# Altium schematic symbol library bch-lib.SchLib: 132 symbols (part 1 of 2)
Pins are listed as number, name and electrical type; pins without a type are passive.

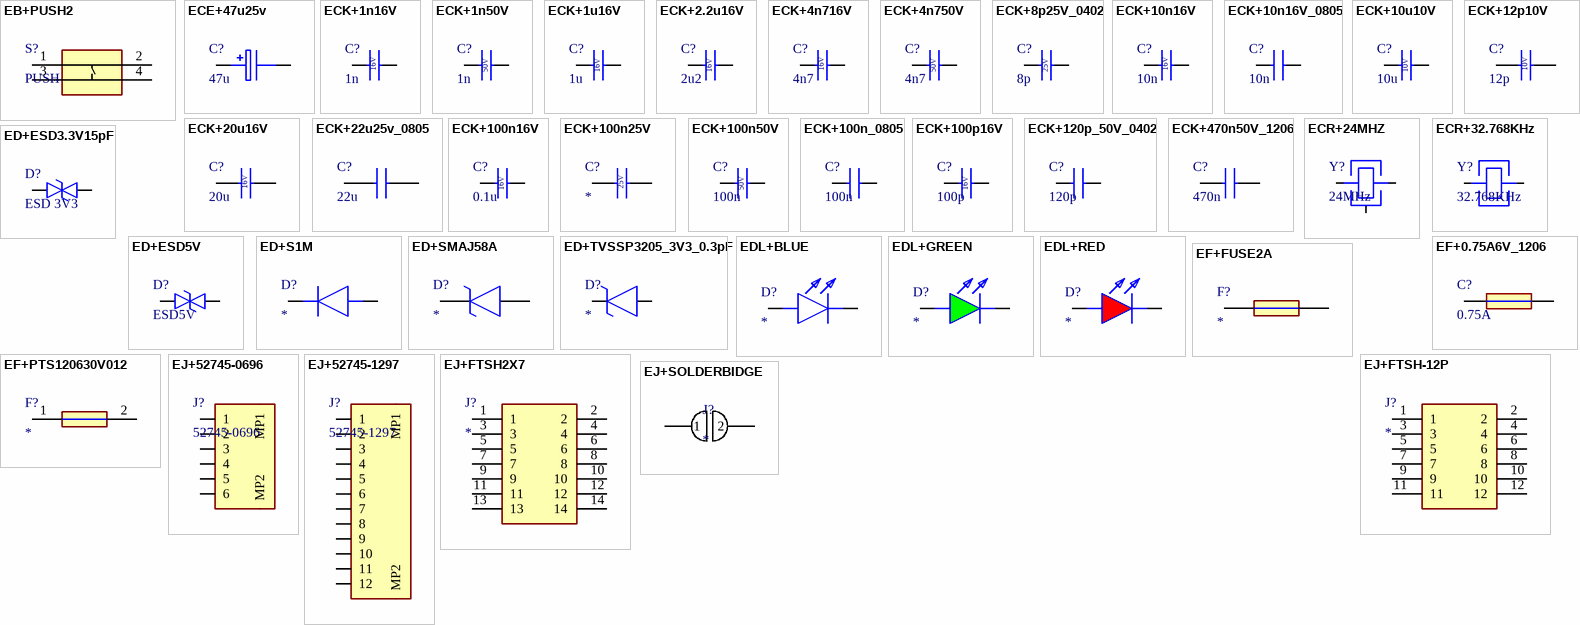
[diagram p0: symbols EB+PUSH2 to EJ+SOLDERBIDGE]

## EB+PUSH2
designator S?, comment PUSH
Small Tact Switch; Manufacturer_Name: C & K COMPONENTS; Manufacturer_Part_Number: RKB2SJM250SMTR LFS; Datasheet Link: https://www.ckswitches.com/media/3130/ck_rk_datasheet.pdf; Height: 2.7mm; Mouser Part Number: 611-RKB2SJM250SMTRLF; Mouser Price/Stock: https://www.mouser.co.uk/ProductDetail/CK/RKB2SJM250SMTR-LFS?qs=iLbezkQI%252Bsj518EgFgehgw%3D%3D; Arrow Part Number: RKB2SJM250SMTR LFS; Arrow Price/Stock: null?region=nac
footprint RKB2SJM250SMTRLFS
pins: 1 NO_1, 2 NO_2, 3 COM, 4 COM_2

## ECE+47u25v
designator C?, comment 47u
Capacitor Polarised; Manufacturer_Name: Lelon; Manufacturer_Part_Number: VZL470M1ETR-0606; Datasheet Link: https://pt.mouser.com/datasheet/2/231/161587300510-2307174.pdf; Height: 6mm; Mouser Part Number: 140-VZL470M1ETR-0606; Mouser Price/Stock: https://www.mouser.co.uk/ProductDetail/Lelon/VZL470M1ETR-0606?qs=AQlKX63v8RsRyjUgEoh%2FhQ%3D%3D
footprint CAPAE530X600N
pins: 1 +, 2 -

## ECK+1n16V
designator C?, comment 1n
16 VDC, 10 %, X7R; Manufacturer_Name: KEMET; Manufacturer_Part_Number: C0603C102K4RECTU; Datasheet Link: https://content.kemet.com/datasheets/KEM_C1090_X7R_ESD.pdf; Height: 0.87mm
footprint CAPC1608X87N
pins: 1, 2
text: 16V

## ECK+1n50V
designator C?, comment 1n
50 VDC, 10 %, X7R; Manufacturer_Name: KEMET; Manufacturer_Part_Number: C0603C102M5RACTU; Datasheet Link: https://content.kemet.com/datasheets/KEM_C1002_X7R_SMD.pdf; Height: 0.87mm; Mouser Part Number: 80-C0603C102M5R; Mouser Price/Stock: https://www.mouser.co.uk/ProductDetail/KEMET/C0603C102M5RACTU?qs=uh%2FneeA34pmxx2ZI4Ky0iA%3D%3D; Arrow Part Number: C0603C102M5RACTU; Arrow Price/Stock: https://www.arrow.com/en/products/c0603c102m5ractu/kemet-corporation?region=nac
footprint C0603
pins: 1, 2
text: 50V

## ECK+1u16V
designator C?, comment 1u
Capacitor 1 uF 16 VDC 10% 0603 X5R; Manufacturer_Name: Murata Electronics; Manufacturer_Part_Number: GRM188R61C105KA12D; Datasheet Link: https://search.murata.co.jp/Ceramy/image/img/A01X/G101/ENG/GRM188R61C105KA12-02A.pdf; Height: 0.9mm; Mouser Part Number: 81-GRM188R61C105KA2D; Mouser Price/Stock: https://www.mouser.co.uk/ProductDetail/Murata-Electronics/GRM188R61C105KA12D?qs=hib6TRO3foNCPZz99dLKPQ%3D%3D; Arrow Part Number: GRM188R61C105KA12D; Arrow Price/Stock: https://www.arrow.com/en/products/grm188r61c105ka12d/murata-manufacturing?region=nac
footprint CAPC1608X90N
pins: 1, 2
text: 16V

## ECK+2.2u16V
designator C?, comment 2u2
Multilayer Ceramic Capacitors MLCC - SMD/SMT 2.2 uF 16 VDC 10% 0603 X6S; Manufacturer_Name: Murata Electronics; Manufacturer_Part_Number: GRM188C81C225KA12D; Datasheet Link: https://search.murata.co.jp/Ceramy/image/img/A01X/G101/ENG/GRM188C81C225KA12-04A.pdf; Height: 0.9mm; Mouser Part Number: 81-GRM188C81C225KA2D; Mouser Price/Stock: https://www.mouser.co.uk/ProductDetail/Murata-Electronics/GRM188C81C225KA12D?qs=O5cugoO6nwevZQeqg2lgHQ%3D%3D; Arrow Part Number: GRM188C81C225KA12D; Arrow Price/Stock: https://www.arrow.com/en/products/grm188c81c225ka12d/murata-manufacturing?utm_currency=USD&region=nac
footprint CAPC1608X90N
pins: 1, 2
text: 16V

## ECK+4n716V
designator C?, comment 4n7
16 VDC, 10 %, X7R; Manufacturer_Name: KEMET; Manufacturer_Part_Number: C0603C472K4RACTU; Datasheet Link: https://content.kemet.com/datasheets/KEM_C1002_X7R_SMD.pdf; Height: 0.87mm; Arrow Part Number: C0603C472K4RACTU; Arrow Price/Stock: https://www.arrow.com/en/products/c0603c472k4ractu/kemet-corporation
footprint C0603
pins: 1, 2
text: 16V

## ECK+4n750V
designator C?, comment 4n7
50 VDC, 10 %, X7R; Manufacturer_Name: KEMET; Manufacturer_Part_Number: C0603C472K5RACTU; Datasheet Link: https://content.kemet.com/datasheets/KEM_C1002_X7R_SMD.pdf; Height: 0.87mm; Arrow Part Number: C0603C472K5RACTU; Arrow Price/Stock: https://www.arrow.com/en/products/c0603c472k5ractu/kemet-corporation?region=nac
footprint C0603
pins: 1, 2
text: 50V

## ECK+8p25V_0402
designator C?, comment 8p
25V 8pF C0G 0402 0.25pF; Manufacturer_Name: Yageo Group; Manufacturer_Part_Number: CBR04C809C3GAC; Datasheet Link: https://www.yageogroup.com/content/datasheet/asset/file/KEM_C1030_CBR_SMD; Height: 0.55mm; Mouser Part Number: 80-CBR04C809C3GAC; Mouser Price/Stock: https://www.mouser.co.uk/ProductDetail/KEMET/CBR04C809C3GAC?qs=kpVq%2FgIAs53vwZ%252BGNvfyMA%3D%3D; Arrow Part Number: CBR04C809C3GAC; Arrow Price/Stock: https://www.arrow.com/en/products/cbr04c809c3gac/kemet-corporation?region=nac
footprint CBR04C160F5GAC
pins: 1, 2
text: 25V

## ECK+10n16V
designator C?, comment 10n
16 VDC, 10 %, X7R; Manufacturer_Name: KEMET; Manufacturer_Part_Number: C0603C103K4RACTU; Datasheet Link: https://content.kemet.com/datasheets/KEM_C1002_X7R_SMD.pdf; Height: 0.87mm; Mouser Part Number: 80-C0603C103K4R; Mouser Price/Stock: https://www.mouser.co.uk/ProductDetail/KEMET/C0603C103K4RACTU?qs=cRfsnvmdsa5e61V7CLuLkA%3D%3D; Arrow Part Number: C0603C103K4RACTU; Arrow Price/Stock: https://www.arrow.com/en/products/c0603c103k4ractu/kemet-corporation?region=nac
footprint C0603
pins: 1, 2
text: 16V

## ECK+10n16V_0805
designator C?, comment 10n
16V 0.01uF X7R 0805 10%; Manufacturer_Name: KEMET; Manufacturer_Part_Number: C0805C103K4RACTU; Datasheet Link: https://content.kemet.com/datasheets/KEM_C1002_X7R_SMD.pdf; Height: 1.1mm; Mouser Part Number: 80-C0805C103K4R; Mouser Price/Stock: https://www.mouser.co.uk/ProductDetail/KEMET/C0805C103K4RACTU?qs=5x48ZXzl2vK6lgNGcWQ77Q%3D%3D; Arrow Part Number: C0805C103K4RACTU; Arrow Price/Stock: https://www.arrow.com/en/products/c0805c103k4ractu/kemet-corporation?region=nac
footprint C0805
pins: 1, 2

## ECK+10u10V
designator C?, comment 10u
10 VDC, 20 %, X5R; Manufacturer_Name: KEMET; Manufacturer_Part_Number: C0603C106M8PACTU; Datasheet Link: https://content.kemet.com/datasheets/KEM_C1006_X5R_SMD.pdf; Height: 0.87mm; Mouser Part Number: 80-C0603C106M8PACTU; Mouser Price/Stock: https://www.mouser.co.uk/ProductDetail/KEMET/C0603C106M8PACTU?qs=gt1LBUVyoHk6B7S%252BOYJa0A%3D%3D; Arrow Part Number: C0603C106M8PACTU; Arrow Price/Stock: https://www.arrow.com/en/products/c0603c106m8pactu/kemet-corporation?region=nac
footprint C0603
pins: 1, 2
text: 10V

## ECK+12p10V
designator C?, comment 12p
Multilayer Ceramic Capacitors MLCC - SMD/SMT 0603 12pF 10volts C0G(N0P) 1%; Manufacturer_Name: Vishay; Manufacturer_Part_Number: VJ0603A120FXQCW1BC; Datasheet Link: https://www.vishay.com/docs/45199/vjcommercialseries.pdf; Height: 0.97mm; Mouser Part Number: 77-VJ0603A120FXQCBC; Mouser Price/Stock: https://www.mouser.com/Search/Refine.aspx?Keyword=77-VJ0603A120FXQCBC; Arrow Part Number: VJ0603A120FXQCW1BC; Arrow Price/Stock: https://www.arrow.com/en/products/vj0603a120fxqcw1bc/vishay
footprint CAPC1608X97N
pins: 1, 2
text: 10V

## ECK+20u16V
designator C?, comment 20u
Capacitor; Manufacturer_Name: Yageo Group; Manufacturer_Part_Number: C0603C200K4HACAUTO; Datasheet Link: https://www.yageogroup.com/content/datasheet/asset/file/KEM_C1007_X8R_ULTRA_150C_SMD; Height: 0.87mm; Mouser Part Number: 80-C0603C200K4HAUTO; Mouser Price/Stock: https://www.mouser.co.uk/ProductDetail/KEMET/C0603C200K4HACAUTO?qs=j%252B1pi9TdxUZOUXgrptGPiw%3D%3D; Arrow Part Number: C0603C200K4HACAUTO; Arrow Price/Stock: https://www.arrow.com/en/products/c0603c200k4hacauto/kemet-corporation?utm_currency=USD&region=nac
footprint C0603
pins: 1, 2
text: 16V

## ECK+22u25v_0805
designator C?, comment 22u
Capacitor; Manufacturer_Name: SAMSUNG; Manufacturer_Part_Number: CL21A226MAYNNNE; Datasheet Link: http://product.samsungsem.com/mlcc/CL21A226MAYNNN.do; Height: 1.45mm; Mouser Part Number: 187-CL21A226MAYNNNE; Mouser Price/Stock: https://www.mouser.co.uk/ProductDetail/Samsung-Electro-Mechanics/CL21A226MAYNNNE?qs=xZ%2FP%252Ba9zWqY%2FVvCfXjMhqg%3D%3D; Arrow Part Number: CL21A226MAYNNNE; Arrow Price/Stock: https://www.arrow.com/en/products/cl21a226maynnne/samsung-electro-mechanics?region=nac
footprint CAPC2012X145N
pins: 1, 2

## ECK+100n16V
designator C?, comment 0.1u
16V 0.1uF XR7 0603 10%; Manufacturer_Name: KEMET; Manufacturer_Part_Number: C0603C104K4RAC-TU; Datasheet Link: https://connect.kemet.com:7667/gateway/IntelliData-ComponentDocumentation/1.0/download/specsheet/C0603C104K4RACTU; Height: 0.95mm; Mouser Part Number: 80-C0603C104K4RAC; Arrow Part Number: C0603C104K4RAC-TU; Arrow Price/Stock: https://www.arrow.com/en/products/c0603c104k4ractu/kemet-corporation
footprint CAPC1608X95N (Footprint not found)
pins: 1, 2
text: 16V

## ECK+100n25V
designator C?
Multilayer Ceramic Capacitors MLCC - SMD/SMT 0.1 uF 25 VDC 20% 0201 X6S; Manufacturer_Name: Murata Electronics; Manufacturer_Part_Number: GRM033C81E104ME14D; Datasheet Link: http://www.murata.com/~/media/webrenewal/support/library/catalog/products/capacitor/mlcc/c02e.pdf; Height: 0.33mm; Mouser Part Number: 81-GRM33C81E104ME14D; Mouser Price/Stock: https://www.mouser.co.uk/ProductDetail/Murata-Electronics/GRM033C81E104ME14D?qs=P%2FC4Eoq9CDx%2F5pf2pjubOA%3D%3D; Arrow Part Number: GRM033C81E104ME14D; Arrow Price/Stock: https://www.arrow.com/en/products/grm033c81e104me14d/murata-manufacturing?region=europe
footprint CAPC0603X33N
pins: 1, 2
text: 25V

## ECK+100n50V
designator C?, comment 100n
50V 0.1uF X7R 0603 10%; Manufacturer_Name: KEMET; Manufacturer_Part_Number: C0603C104K5RACTU7042; Datasheet Link: https://www.arrow.com/en/products/c0603c104k5ractu7042/kemet-corporation; Height: 0.95mm; Arrow Part Number: C0603C104K5RACTU7042; Arrow Price/Stock: https://www.arrow.com/en/products/c0603c104k5ractu7042/kemet-corporation
footprint CAPC1608X95N (Footprint not found)
pins: 1, 2
text: 50V

## ECK+100n_0805
designator C?, comment 100n
Capacitor; Manufacturer_Name: KEMET; Manufacturer_Part_Number: C0805C104K4RACTU; Datasheet Link: https://content.kemet.com/datasheets/KEM_C1002_X7R_SMD.pdf; Height: 1.1mm; Mouser Part Number: 80-C0805C104K4R; Mouser Price/Stock: https://www.mouser.co.uk/ProductDetail/KEMET/C0805C104K4RACTU?qs=Pc30aiB8zWWfqQNJWggt%252BA%3D%3D; Arrow Part Number: C0805C104K4RACTU; Arrow Price/Stock: https://www.arrow.com/en/products/c0805c104k4ractu/kemet-corporation?region=nac
footprint C0805
pins: 1, 2

## ECK+100p16V
designator C?, comment 100p
16V 100pF X7R 0603 10%; Manufacturer_Name: KEMET; Manufacturer_Part_Number: C0603C101K4RACTU; Datasheet Link: https://content.kemet.com/datasheets/KEM_C1002_X7R_SMD.pdf; Height: 0.87mm
footprint C0603
pins: 1, 2
text: 16V

## ECK+120p_50V_0402
designator C?, comment 120p
Multilayer Ceramic Capacitors MLCC - SMD/SMT 120 pF 50 VDC 5% 0402 C0G (NP0) AEC-Q200; Manufacturer_Name: Murata Electronics; Manufacturer_Part_Number: GCM1555C1H121JA16J; Datasheet Link: https://search.murata.co.jp/Ceramy/image/img/A01X/G101/ENG/GCM1555C1H121JA16-01A.pdf; Height: 0.55mm; Mouser Part Number: 81-GCM1555C1H121JA6J; Mouser Price/Stock: https://www.mouser.co.uk/ProductDetail/Murata-Electronics/GCM1555C1H121JA16J?qs=bGEzvQhTDnbTpDR%252B7iTnIA%3D%3D; Arrow Part Number: GCM1555C1H121JA16J; Arrow Price/Stock: https://www.arrow.com/en/products/gcm1555c1h121ja16j/murata-manufacturing?region=nac
footprint CAPC1005X55N
pins: 1, 2

## ECK+470n50V_1206
designator C?, comment 470n
Capacitor X7R, 10 %, 50 V; Manufacturer_Name: KEMET; Manufacturer_Part_Number: C1206F474K5RACTU; Datasheet Link: https://content.kemet.com/datasheets/KEM_C1012_X7R_OPENMODE_SMD.pdf; Mouser Part Number: 80-C1206F474K5R; Mouser Price/Stock: https://www.mouser.com/Search/Refine.aspx?Keyword=80-C1206F474K5R
footprint C1206
pins: 1, 2

## ECR+24MHZ
designator Y?, comment 24MHz
Crystals WE-XTAL 24.0MHz 15ppm 3.2 x 2.5mm; Manufacturer_Name: Wurth Elektronik; Manufacturer_Part_Number: 830107006509; Datasheet Link: https://www.we-online.com/catalog/datasheet/830107006509.pdf; Height: 0.8mm; Mouser Part Number: 710-830107006509; Mouser Price/Stock: https://www.mouser.co.uk/ProductDetail/Wurth-Elektronik/830107006509?qs=hWgE7mdIu5QkYkvr4tcl2g%3D%3D
footprint 830107006509; pin to pad 2>2+4
pins: 1 CRYSTAL_1, 2 GND, 3 CRYSTAL_2

## ECR+32.768KHz
designator Y?, comment 32.768KHz
Crystals WE-XTAL 32.768 kHz 7pF 70kOhms; Manufacturer_Name: Wurth Elektronik; Manufacturer_Part_Number: 830009709; Datasheet Link: https://www.we-online.com/catalog/datasheet/830009709.pdf; Height: 0.9mm; Mouser Part Number: 710-830009709; Mouser Price/Stock: https://www.mouser.co.uk/ProductDetail/Wurth-Elektronik/830009709?qs=2WXlatMagcG5opfa%252B%2FO2MQ%3D%3D
footprint 830009709
pins: 1 CRYSTAL_1, 2 CRYSTAL_2

## ED+ESD3.3V15pF
designator D?, comment ESD 3V3
Vesd (ESD contact/air gap): 18 kV, Cd (Diode Capacitance): 15 pF, Working Voltage: 3.3 V, Breakdown Voltage: 5 V, Clamping Voltage: 10.5 V; Manufacturer_Name: onsemi; Manufacturer_Part_Number: ESD9B3.3ST5G; Datasheet Link: https://www.onsemi.com/pub/Collateral/ESD9B-D.PDF; Height: 0.4mm; Mouser Part Number: 863-ESD9B3.3ST5G; Mouser Price/Stock: https://www.mouser.co.uk/ProductDetail/onsemi/ESD9B3.3ST5G?qs=yU2N9dt%252BrfmXrPf3vhgUEA%3D%3D; Arrow Part Number: ESD9B3.3ST5G; Arrow Price/Stock: https://www.arrow.com/en/products/esd9b3.3st5g/on-semiconductor?utm_currency=USD&region=nac
footprint SODFL1006X40N
pins: 1, 2

## ED+ESD5V
designator D?, comment ESD5V
ESD Protection Diode, Bidirectional, VRWM=5 V, VBR=6 V typ., VC=14 V max, IPP=6 A, Cd=20 pF, ±30 kV ESD, SOD-923; Manufacturer_Name: Diodes Incorporated; Manufacturer_Part_Number: D5V0L1B2S9-7; Datasheet Link: https://www.diodes.com/assets/Datasheets/D5V0L1B2S9.pdf; Height: 0.4mm; Mouser Part Number: 621-D5V0L1B2S9-7; Mouser Price/Stock: https://www.mouser.co.uk/ProductDetail/Diodes-Incorporated/D5V0L1B2S9-7?qs=bLNvM6dkO6SRwc%2Fzm27P2g%3D%3D; Arrow Part Number: D5V0L1B2S9-7; Arrow Price/Stock: https://www.arrow.com/en/products/d5v0l1b2s9-7/diodes-incorporated?utm_currency=USD&region=nac
footprint SODFL1006X40N
pins: 1, 2

## ED+S1M
designator D?
Diode; Manufacturer_Name: Diodes Incorporated; Manufacturer_Part_Number: S1M-13-F; Datasheet Link: http://uk.rs-online.com/web/p/products/7082220; Height: 2.4mm; Mouser Part Number: 621-S1M-F; Mouser Price/Stock: https://www.mouser.co.uk/ProductDetail/Diodes-Incorporated/S1M-13-F?qs=Ql%252B1sS8nYriQkfvrdt%252Befw%3D%3D; Arrow Part Number: S1M-13-F; Arrow Price/Stock: https://www.arrow.com/en/products/s1m-13-f/diodes-incorporated?region=nac
footprint DIOM5226X240N (Footprint not found)
pins: 1 K, 2 A

## ED+SMAJ58A
designator D?
TVS Diode (Unidirectional); Manufacturer_Name: LITTELFUSE; Manufacturer_Part_Number: SMAJ58A; Datasheet Link: https://componentsearchengine.com/Datasheets/2/SMAJ58A.pdf; Height: 2.29mm; Mouser Part Number: 576-SMAJ58A; Mouser Price/Stock: https://www.mouser.co.uk/ProductDetail/Littelfuse/SMAJ58A?qs=2VFNtWizgiepPOMiS0Encw%3D%3D; Arrow Part Number: SMAJ58A; Arrow Price/Stock: https://www.arrow.com/en/products/smaj58a/littelfuse?region=nac
footprint DIOM5026X229N
pins: 1 K, 2 A

## ED+TVSSP3205_3V3_0.3pF
designator D?
ESD Protection Diodes / TVS Diodes ESD 3.3V UNI, Working Voltage: 3.3 V, Clamping Voltage: 12 V, Breakdown Voltage: 3.6 V, Ipp - Peak Pulse Current: 4 A , Cd - Diode Capacitance: 0.3 pF; Manufacturer_Name: LITTELFUSE; Manufacturer_Part_Number: SP3205-01ETG; Datasheet Link: https://4donline.ihs.com/images/VipMasterIC/IC/LFSI/LFSI-S-A0010724013/LFSI-S-A0010724013-1.pdf?hkey=6D3A4C79FDBF58556ACFDE234799DDF0; Height: 0.55mm; Mouser Part Number: 576-SP3205-01ETG; Mouser Price/Stock: https://www.mouser.co.uk/ProductDetail/Littelfuse/SP3205-01ETG?qs=vHuUswq2%252BswfNhVD4WkB%252BQ%3D%3D; Arrow Part Number: SP3205-01ETG; Arrow Price/Stock: https://www.arrow.com/en/products/sp3205-01etg/littelfuse?utm_currency=USD&region=nac
footprint SP320501ETG
pins: 1 K, 2 A

## EDL+BLUE
designator D?
LED BLUE, 3.2 V; Manufacturer_Name: Wurth Elektronik; Manufacturer_Part_Number: 150080BS75000; Datasheet Link: https://katalog.we-online.com/led/datasheet/150080BS75000.pdf; Height: 0.8mm; Mouser Part Number: 710-150080BS75000; Mouser Price/Stock: https://www.mouser.co.uk/ProductDetail/Wurth-Elektronik/150080BS75000?qs=2kOmHSv6VfT2tBo3UPVqAQ%3D%3D
footprint LEDM2012X80N
pins: 1 K, 2 A

## EDL+GREEN
designator D?
LED GREEN,  3.2 V; Manufacturer_Name: Wurth Elektronik; Manufacturer_Part_Number: 150080GS75000; Datasheet Link: https://katalog.we-online.com/led/datasheet/150080GS75000.pdf; Height: 0.8mm; Mouser Part Number: 710-150080GS75000; Mouser Price/Stock: https://www.mouser.co.uk/ProductDetail/Wurth-Elektronik/150080GS75000?qs=2kOmHSv6VfQRoTEZVk1mGA%3D%3D
footprint LEDM2012X80N
pins: 1 S, 2 K

## EDL+RED
designator D?
LED RED, 2 V; Manufacturer_Name: Wurth Elektronik; Manufacturer_Part_Number: 150080RS75000; Datasheet Link: https://componentsearchengine.com/Datasheets/2/150080RS75000.pdf; Height: 0.8mm; Mouser Part Number: 710-150080RS75000; Mouser Price/Stock: https://www.mouser.co.uk/ProductDetail/Wurth-Elektronik/150080RS75000?qs=LlUlMxKIyB2jdCo7bnfgew%3D%3D
footprint LEDM2012X80N
pins: 1 K, 2 A

## EF+0.75A6V_1206
designator C?, comment 0.75A
Resettable Fuses - PPTC 1206 6V 0.75A 1.1W SMD AEC-Q200 High Temp; Manufacturer_Name: YAGEO; Manufacturer_Part_Number: SMDH1206B075TF; Datasheet Link: https://cz.mouser.com/datasheet/3/508/1/smdh1206.pdf; Mouser Part Number: 603-SMDH1206B075TF; Mouser Price/Stock: https://cz.mouser.com/ProductDetail/YAGEO/SMDH1206B075TF?qs=jcD%2FCkGBYeN0SVo4GFcQbQ%3D%3D
footprint PTS120630V012
pins: 1, 2

## EF+FUSE2A
designator F?
Fuse; Manufacturer_Name: Bel; Manufacturer_Part_Number: 0ZCF0100AF2A; Datasheet Link: https://www.mouser.it/datasheet/2/643/0ZCF_Nov2016-1133542.pdf; Height: 1.7mm; Mouser Part Number: 530-0ZCF0100AF2A
footprint FUSC7451X170N
pins: 1, 2

## EF+PTS120630V012
designator F?
Resettable Fuses - PPTC PPTC 1206 30V 0.12A SMD; Manufacturer_Name: Eaton; Manufacturer_Part_Number: PTS120630V012; Datasheet Link: https://componentsearchengine.com/Datasheets/2/PTS120630V012.pdf; Height: 0.9mm; Mouser Part Number: 504-PTS120630V012; Mouser Price/Stock: https://www.mouser.co.uk/ProductDetail/Bussmann-Eaton/PTS120630V012?qs=QmibqUXyDhRHrC1SbxkW3w%3D%3D; Arrow Part Number: PTS120630V012; Arrow Price/Stock: https://www.arrow.com/en/products/pts120630v012/eaton?region=nac
footprint PTS120630V012
pins: 1, 2

## EJ+52745-0696
designator J?, comment 52745-0696
FFC & FPC Connectors RA SMT ZIF TOP 6P ROHS COMPLIANT, Pitch: 0.5 mm, Mounting Angle / Contact Location: Right Angle / Top Contact, Current Rating: 500 mA, Voltage Rating: 50 V; Manufacturer_Name: Molex; Datasheet Link: https://www.molex.com/content/dam/molex/molex-dot-com/products/automated/en-us/salesdrawingpdf/527/52745/527450696_sd.pdf?inline; Height: 2.2mm; Manufacturer_Part_Number: 52745-0696; Mouser Part Number: 538-52745-0696; Mouser Price/Stock: https://www.mouser.co.uk/ProductDetail/Molex/52745-0696?qs=AU9XQWArEY9ei7I32bfdLw%3D%3D
footprint 527450696 (Footprint not found)
pins: 1, 2, 3, 4, 5, 6, 7 MP1, 8 MP2

## EJ+52745-1297
designator J?, comment 52745-1297
FFC & FPC Connectors RA SMT ZIF TOP 12P GOLD, Pitch: 0.5 mm, Mounting Angle / Contact Location: Right Angle / Top Contact, Current Rating: 500 mA, Voltage Rating: 50 V; Manufacturer_Name: Molex; Datasheet Link: https://www.molex.com/pdm_docs/sd/527451297_sd.pdf; Height: 2mm; Manufacturer_Part_Number: 52745-1297; Mouser Part Number: 538-52745-1297; Mouser Price/Stock: https://www.mouser.co.uk/ProductDetail/Molex/52745-1297?qs=nDwhpid8gJaCgIkitRUygg%3D%3D
footprint 527451297 (Footprint not found)
pins: 1, 2, 3, 4, 5, 6, 7, 8, 9, 10, 11, 12, MP1, MP2

## EJ+FTSH2X7
designator J?
Connector; Manufacturer_Name: SAMTEC; Manufacturer_Part_Number: FTSH-107-01-L-DV-K-A-P; Datasheet Link: http://suddendocs.samtec.com/prints/ftsh-1xx-xx-xxx-dv-xxx-xxx-mkt.pdf; Mouser Part Number: 200-FTSH10701LDVKAP; Mouser Price/Stock: https://www.mouser.co.uk/ProductDetail/Samtec/FTSH-107-01-L-DV-K-A-P?qs=PB6%2FjmICvI2QizANfiVr3Q%3D%3D; Arrow Part Number: FTSH-107-01-L-DV-K-A-P; Arrow Price/Stock: https://www.arrow.com/en/products/ftsh-107-01-l-dv-k-a-p/samtec?region=nac
footprint FTSH-107-XX-YYY-DV-K-A-P
pins: 1, 2, 3, 4, 5, 6, 7, 8, 9, 10, 11, 12, 13, 14

## EJ+FTSH-12P
designator J?
Headers & Wire Housings High Reliability Header Strips; Manufacturer_Name: SAMTEC; Manufacturer_Part_Number: FTSH-106-01-L-DV-K; Datasheet Link: https://suddendocs.samtec.com/prints/ftsh-1xx-xx-xxx-dv-xxx-xxx-x-xx-mkt.pdf?_gl=1*qlwbj8*_gcl_au*ODEwODQ2NjMyLjE3MTk4MjE1NDY.*_ga*MTcyMTUxMTIwMy4xNzEyMDQxMTc2*_ga_3KFNZC07WW*MTcyMTk3NzcxMy43MS4xLjE3MjE5Nzc3MjMuNTAuMC4w; Height: 6.1mm; Mouser Part Number: 200-FTSH10601LDVK; Mouser Price/Stock: https://www.mouser.co.uk/ProductDetail/Samtec/FTSH-106-01-L-DV-K?qs=%252BZP6%2F%252BtExtD6D8VFkp5HuA%3D%3D; Arrow Part Number: FTSH-106-01-L-DV-K; Arrow Price/Stock: https://www.arrow.com/en/products/ftsh-106-01-l-dv-k/samtec?region=europe
footprint FTSH10601LDVK (Footprint not found)
pins: 1, 2, 3, 4, 5, 6, 7, 8, 9, 10, 11, 12

## EJ+SOLDERBIDGE
designator J?
footprint SOLDERBRIDGE
pins: 1, 2

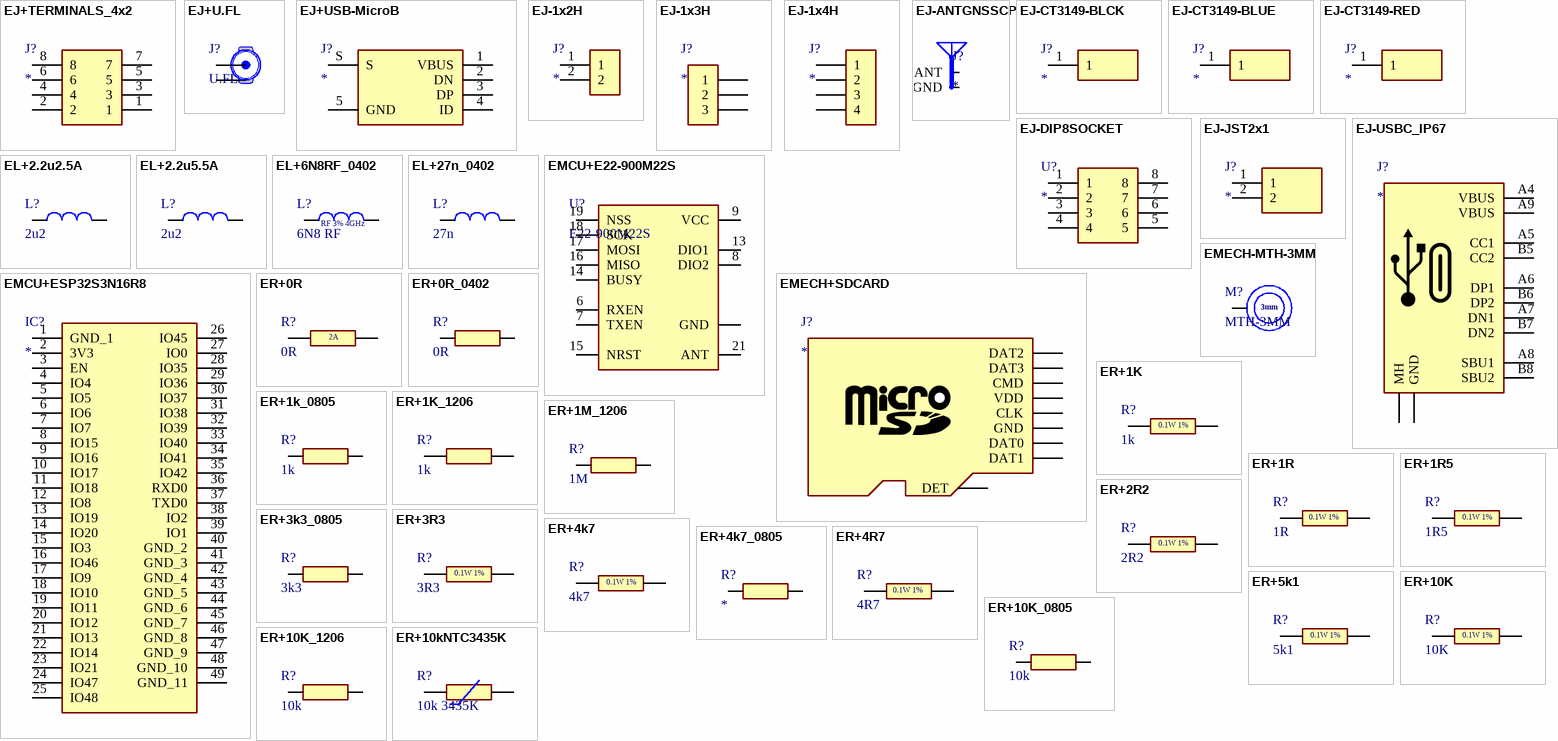
[diagram p1: symbols EJ+TERMINALS_4x2 to ER+10kNTC3435K]

## EJ+TERMINALS_4x2
designator J?
Fixed Terminal Blocks WR-TBL 300VAC 4A 8Po 45 Deg 30-16AWG; Manufacturer_Name: Wurth Elektronik; Manufacturer_Part_Number: 691412320008M; Datasheet Link: https://www.mouser.com/datasheet/2/445/691412320008M-1095206.pdf; Height: 13.3mm; Mouser Part Number: 710-691412320008M; Mouser Price/Stock: https://www.mouser.co.uk/ProductDetail/Wurth-Elektronik/691412320008M?qs=lBTPRtX1sU9sY3m%2FP6%252BdhQ%3D%3D
footprint 691412320008M
pins: 1, 2, 3, 4, 5, 6, 7, 8

## EJ+U.FL
designator J?, comment U.FL
RF Connectors / Coaxial Connectors T&R U.FL Straight Surface Mount Jack 6 GHz 50 Ohms; Manufacturer_Name: TE Connectivity; Manufacturer_Part_Number: CONUFL001-SMD-T; Datasheet Link: https://eu.mouser.com/datasheet/2/418/9/ENG_DS_CONUFL001_SMD_T_B-3238717.pdf; Height: 1.3mm; Mouser Part Number: N/A; Mouser Price/Stock: https://www.mouser.co.uk/ProductDetail/TE-Connectivity/CONUFL001-SMD-T?qs=3Rah4i%252BhyCHmRzMH%252BkLkPQ%3D%3D; Arrow Part Number: CONUFL001-SMD-T; Arrow Price/Stock: https://www.arrow.com/en/products/conufl001-smd-t/te-connectivity?utm_currency=USD&region=nac
footprint CONUFL001SMDT; pin to pad 2>2+3
pins: 1 SIG, 2 GND

## EJ+USB-MicroB
designator J?
USB connector 5P MICRO USB TYPE B RECEPTACLE W/ PEG; Manufacturer_Name: Amphenol Communications Solutions; Manufacturer_Part_Number: 10118193-0001LF; Datasheet Link: https://cdn.amphenol-icc.com/media/wysiwyg/files/drawing/10118193.pdf; Height: 3.3mm; Mouser Part Number: 649-10118193-0001LF; Mouser Price/Stock: https://www.mouser.co.uk/ProductDetail/Amphenol-FCI/10118193-0001LF?qs=Ywefl8B65e63Nsqd%252B8HZaQ%3D%3D; Arrow Part Number: 10118193-0001LF; Arrow Price/Stock: https://www.arrow.com/en/products/10118193-0001lf/amphenol-fci?region=nac
footprint 101181930001LF
pins: 1 VBUS, 2 DN, 3 DP, 4 ID, 5 GND, S

## EJ-1x2H
designator J?
Connector; Manufacturer_Name: 3M; Manufacturer_Part_Number: 951102-8622-AR; Datasheet Link: http://multimedia.3m.com/mws/media/1400506O/3m-pin-strip-header-951-series-78-5100-2653-3.pdf; Height: 5.9mm; Mouser Part Number: 517-951102-8622-AR; Mouser Price/Stock: https://www.mouser.co.uk/ProductDetail/3M-Electronic-Solutions-Division/951102-8622-AR?qs=prfCNjPRnHPOrbmwtl5A7Q%3D%3D; Arrow Part Number: 951102-8622-AR; Arrow Price/Stock: https://www.arrow.com/en/products/951102-8622-ar/3m
footprint HDRV2W55P0X200_1X2_390X200X590P
pins: 1, 2

## EJ-1x3H
designator J?
Connector; Manufacturer_Name: Amphenol Communications Solutions; Manufacturer_Part_Number: G800W305018EU; Datasheet Link: https://cdn.amphenol-cs.com/media/wysiwyg/files/drawing/g800wxxxxxxeu_1.pdf; Height: 8.95mm; Mouser Part Number: 523-G800W305018EU; Mouser Price/Stock: https://www.mouser.co.uk/ProductDetail/Amphenol-Commercial-Products/G800W305018EU?qs=ouNmo%2FJCrDBGiooBHcFpjg%3D%3D; Arrow Part Number: G800W305018EU; Arrow Price/Stock: https://www.arrow.com/en/products/g800w305018eu/amphenol-fci?region=nac
footprint HDRV3W69P0X254_1X3_762X250X895P
pins: 1, 2, 3

## EJ-1x4H
designator J?
Connector; Manufacturer_Name: Wurth Elektronik; Manufacturer_Part_Number: 61300411121; Datasheet Link: http://katalog.we-online.de/em/datasheet/6130xx11121.pdf; Height: 8.54mm; Mouser Part Number: 710-61300411121; Mouser Price/Stock: https://www.mouser.co.uk/ProductDetail/Wurth-Elektronik/61300411121?qs=PhR8RmCirEYQcLLqXD8rAA%3D%3D
footprint HDRV4W95P0X254_1X4_1016X254X854P
pins: 1, 2, 3, 4

## EJ-ANTGNSSCP
designator J?
Antennas ANTENNA GNSS L1 18X18 THM; Manufacturer_Name: Linx; Manufacturer_Part_Number: ANT-GNSSCP-TH18L1; Datasheet Link: https://www.te.com/commerce/DocumentDelivery/DDEController?Action=srchrtrv&DocNm=C-ANT-GNSSCP-TH18L1&DocType=Customer%20Drawing&DocLang=English&DocFormat=pdf&PartCntxt=ANT-GNSSCP-TH18L1; Height: 4mm
footprint ANTGNSSCPTH18L1; pin to pad 2>2+3+4+5 2,3,4,5>2+3+4+5
pins: 1 ANT, 2 GND

## EJ-CT3149-BLCK
designator J?
Test Plugs & Test Jacks SafetyJack,ShortPin VertPCB Mount,Black; Manufacturer_Name: Cal Test; Manufacturer_Part_Number: CT3149-0; Datasheet Link: https://app.caltestelectronics.com/product-list/product-page/view/CT3149; Height: 21.8mm; Mouser Part Number: 510-CT3149-0; Mouser Price/Stock: https://www.mouser.co.uk/ProductDetail/Cal-Test/CT3149-0?qs=vgjKjNJexTgEzCuLCVyKuA%3D%3D
footprint CT31490
footprint CT31490_MILL
pins: 1

## EJ-CT3149-BLUE
designator J?
Test Plugs & Test Jacks SafetyJack,ShortPin Vert PCB Mount,Blue; Manufacturer_Name: Cal Test; Manufacturer_Part_Number: CT3149-6; Datasheet Link: https://www.mouser.in/datasheet/2/701/CT3149_drawing-1308432.pdf; Height: 21mm; Mouser Part Number: 510-CT3149-6; Mouser Price/Stock: https://www.mouser.co.uk/ProductDetail/Cal-Test/CT3149-6?qs=vgjKjNJexTjVH7JXtDy55g%3D%3D
footprint CT31490
footprint CT31490_MILL
pins: 1

## EJ-CT3149-RED
designator J?
Test Plugs & Test Jacks 4mm Safety Jack, Short Pin - Vert PCB Mount, Red; Manufacturer_Name: Cal Test; Manufacturer_Part_Number: CT3149-2; Datasheet Link: https://www.mouser.com/datasheet/2/701/CT3149_drawing-1308432.pdf; Height: 21mm; Mouser Part Number: 510-CT3149-2; Mouser Price/Stock: https://www.mouser.co.uk/ProductDetail/Cal-Test/CT3149-2?qs=vgjKjNJexTjh%2F3aGBCBK8Q%3D%3D
footprint CT31490
footprint CT31490_MILL
pins: 1

## EJ-DIP8SOCKET
designator U?
Connectivity IC & Component Sockets 8P DIP SKT 300 CL LADDER; Manufacturer_Name: TE Connectivity; Manufacturer_Part_Number: 1-2199298-2; Datasheet Link: https://componentsearchengine.com/Datasheets/2/1-2199298-2.pdf; Height: 5.1mm; Mouser Part Number: 571-1-2199298-2; Mouser Price/Stock: https://www.mouser.co.uk/ProductDetail/TE-Connectivity/1-2199298-2?qs=fK8dlpkaUMtEKa4wabwOXQ%3D%3D; Arrow Part Number: 1-2199298-2; Arrow Price/Stock: https://www.arrow.com/en/products/1-2199298-2/te-connectivity?region=europe
footprint DIPS762W70P254L1016H510Q8N
pins: 1, 2, 3, 4, 5, 6, 7, 8

## EJ-JST2x1
designator J?
Konektor: kabel-pl.spoj; zásuvka; vidlice; PIN: 2; PH; 2A; 100V; SMT; Manufacturer_Name: JST (JAPAN SOLDERLESS TERMINALS); Manufacturer_Part_Number: S2B-ZR (LF)(SN); Datasheet Link: https://www.jst-mfg.com/product/pdf/eng/eZH.pdf?6794690f4fd86; Height: 3.7mm; Arrow Part Number: S2B-ZR (LF)(SN); Arrow Price/Stock: https://www.arrow.com/en/products/s2b-zr-lf-sn/jst-manufacturing?region=europe
footprint S2BZRLFSN
pins: 1, 2

## EJ-USBC_IP67
designator J?
USB Connectors USB2.0 TypeC Recpt., 3u Gold, 16P Horz Mid Mount SMT, 1.13mm O-set, IP67; Manufacturer_Name: GCT (GLOBAL CONNECTOR TECHNOLOGY); Manufacturer_Part_Number: USB4720-03-A; Datasheet Link: https://www.gct.co/files/drawings/USB4720.pdf; Height: 3.9mm; Mouser Part Number: 640-USB472003A; Mouser Price/Stock: https://www.mouser.co.uk/ProductDetail/GCT/USB4720-03-A?qs=Z%252BL2brAPG1IK%252BbxHmYg8zQ%3D%3D
footprint USB472003A; pin to pad A1, A12>A12+A1 A12>A12+A1 MH>MH1+MH2+MH3+MH4+MH5+MH6
pins: A4 VBUS, A5 CC1, A6 DP1, A7 DN1, A8 SBU1, A9 VBUS, A12 GND, B5 CC2, B6 DP2, B7 DN2, B8 SBU2, MH1 MH

## EL+2.2u2.5A
designator L?, comment 2u2
Power Inductors - SMD SDCL1V4018, 2.2uH, 3.0A, 2 PADS, SMT; Manufacturer_Name: Eaton Electronics; Manufacturer_Part_Number: SDCL1V4018-2R2M-R; Datasheet Link: https://www.eaton.com/content/dam/eaton/products/electronic-components/resources/data-sheet/eaton-sdcl1v40-semi-shielded-smt-power-inductor-data-sheet-elx1032-en.pdf; Mouser Part Number: 704-SDCL1V4018-2R2MR; Mouser Price/Stock: https://cz.mouser.com/ProductDetail/Eaton-Electronics/SDCL1V4018-2R2M-R?qs=TuK3vfAjtkWr2amMuzULwA%3D%3D
footprint SDCL1V40182R2MR
pins: 1, 2

## EL+2.2u5.5A
designator L?, comment 2u2
Power Inductors - SMD 2.2uH 20%; Manufacturer_Name: Bourns; Manufacturer_Part_Number: SRP5030TA-2R2M; Datasheet Link: https://cz.mouser.com/datasheet/3/40/1/srp5030ta.pdf; Mouser Part Number: 652-SRP5030TA-2R2M; Mouser Price/Stock: https://cz.mouser.com/ProductDetail/Bourns/SRP5030TA-2R2M?qs=ZwKJWZfDtNgb6JbyacG30w%3D%3D
footprint INDPM5752X300N
pins: 1, 2

## EL+6N8RF_0402
designator L?, comment 6N8 RF
RF Inductor
footprint LQW15CNR20J00B
pins: 1, 2
text: RF 3% 4GHz

## EL+27n_0402
designator L?, comment 27n
LQG15HS27NJ02D RF Inductors - SMD 27 NH 5%; Datasheet Link: https://cz.mouser.com/datasheet/3/76/2/JELF243B_0010.pdf; Manufacturer_Name: LQG15HS27NJ02D; Manufacturer_Part_Number: LQG15HS27NJ02D; Mouser Part Number: 81-LQG15HS27NJ02D; Mouser Price/Stock: https://mou.sr/4wJB6bA
footprint LQG15WH0N7B02D
pins: 1, 2

## EMCU+E22-900M22S
designator U?, comment E22-900M22S
-147dBm 22.3dBm 7km SPI SMD,14x20mm LoRa Modules ROHS
footprint E22-900M22S; pin to pad 1>1+2+3+4+5+10+11+12+20+22
pins: 1 GND, 6 RXEN, 7 TXEN, 8 DIO2, 9 VCC, 13 DIO1, 14 BUSY, 15 NRST, 16 MISO, 17 MOSI, 18 SCK, 19 NSS, 21 ANT

## EMCU+ESP32S3N16R8
designator IC?
Integrated Circuit; Manufacturer_Name: Espressif Systems; Manufacturer_Part_Number: ESP32-S3-WROOM-1-N16R8; Datasheet Link: https://www.espressif.com/sites/default/files/documentation/esp32-s3-wroom-1_wroom-1u_datasheet_en.pdf; Height: 3.25mm; Mouser Part Number: 356-ESP32S3WRM1N16R8; Mouser Price/Stock: https://www.mouser.co.uk/ProductDetail/Espressif-Systems/ESP32-S3-WROOM-1-N16R8?qs=Li%252BoUPsLEnvQc9gW6AMhZg%3D%3D
footprint ESP32S3WROOM1N16R8 (Footprint not found)
pins: 1 GND_1, 2 3V3, 3 EN, 4 IO4, 5 IO5, 6 IO6, 7 IO7, 8 IO15, 9 IO16, 10 IO17, 11 IO18, 12 IO8, 13 IO19, 14 IO20, 15 IO3, 16 IO46, 17 IO9, 18 IO10, 19 IO11, 20 IO12, 21 IO13, 22 IO14, 23 IO21, 24 IO47, 25 IO48, 26 IO45, 27 IO0, 28 IO35, 29 IO36, 30 IO37, 31 IO38, 32 IO39, 33 IO40, 34 IO41, 35 IO42, 36 RXD0, 37 TXD0, 38 IO2, 39 IO1, 40 GND_2, 41 GND_3, 42 GND_4, 43 GND_5, 44 GND_6, 45 GND_7, 46 GND_8, 47 GND_9, 48 GND_10, 49 GND_11

## EMECH+SDCARD
designator J?
Memory Card Connectors Micro SD Push Pull SMT 1.15mm; Manufacturer_Name: Molex; Manufacturer_Part_Number: 105162-0001; Datasheet Link: http://www.molex.com/webdocs/datasheets/pdf/en-us//1051620001_MEMORY_CARD_SOCKET.pdf; Height: 1.45mm; Mouser Part Number: 538-105162-0001; Mouser Price/Stock: https://www.mouser.co.uk/ProductDetail/Molex/105162-0001?qs=1fNsfHe5VsK8daqlgKxZfQ%3D%3D
footprint 1051620001; pin to pad 10>6+10+11+12+13
pins: 1 DAT2, 2 DAT3, 3 CMD, 4 VDD, 5 CLK, 7 DAT0, 8 DAT1, 9 DET, 10 GND

## EMECH-MTH-3MM
designator M?, comment MTH-3MM
footprint MountingHole_3.0mm_NPTH
footprint MountingHole_3.0mm_PTH
pins: 1
text: 3mm

## ER+0R
designator R?, comment 0R
2A; Manufacturer_Name: Vishay; Manufacturer_Part_Number: RCA06030000ZSEA; Datasheet Link: https://componentsearchengine.com/Datasheets/2/RCA06030000ZSEA.pdf; Height: 0.5mm; Mouser Part Number: 71-RCA06030000ZSEA; Mouser Price/Stock: https://www.mouser.co.uk/ProductDetail/Vishay-Draloric/RCA06030000ZSEA?qs=4%252Ber4tcBTOg9nmK7yWNpHw%3D%3D; Arrow Part Number: RCA06030000ZSEA; Arrow Price/Stock: https://www.arrow.com/en/products/rca06030000zsea/vishay?region=nac
footprint RESC1608X50N
pins: 1, 2

## ER+0R_0402
designator R?, comment 0R
Thick Film Resistors - SMD 0 Ohms 1/16 W 50 V 1% 0402 - 55 C + 155 C AEC-Q200; Manufacturer_Name: Yageo Group; Manufacturer_Part_Number: AC0402FR-070RL; Datasheet Link: https://www.yageo.com/upload/media/product/productsearch/datasheet/rchip/PYu-AC_51_RoHS_L_11.pdf; Height: 0.37mm; Mouser Part Number: 603-AC0402FR-070RL; Mouser Price/Stock: https://www.mouser.co.uk/ProductDetail/YAGEO/AC0402FR-070RL?qs=ygRr%2FtkhtettkzGxq5kFaA%3D%3D; Arrow Part Number: AC0402FR-070RL; Arrow Price/Stock: https://www.arrow.com/en/products/ac0402fr-070rl/yageo?region=nac
footprint RESC1005X37N
pins: 1, 2

## ER+1K
designator R?, comment 1k
Resistor 1%, 0.1W; Manufacturer_Name: Vishay; Manufacturer_Part_Number: CRCW06031K00FKEA; Datasheet Link: http://www.vishay.com/docs/20035/dcrcwe3.pdf; Height: 0.5mm; Mouser Part Number: 71-CRCW0603-1.0K-E3; Mouser Price/Stock: https://www.mouser.co.uk/ProductDetail/Vishay-Dale/CRCW06031K00FKEA?qs=CToX950LohJasujQx7GY3g%3D%3D; Arrow Part Number: CRCW06031K00FKEA; Arrow Price/Stock: https://www.arrow.com/en/products/crcw06031k00fkea/vishay?region=europe
footprint RESC1608X50N
pins: 1, 2
text: 0.1W 1%

## ER+1k_0805
designator R?, comment 1k
Resistor 1 kOhms 125 mW 0805 1%; Manufacturer_Name: YAGEO; Manufacturer_Part_Number: RC0805FR-071KP; Datasheet Link: https://www.yageo.com/upload/media/product/productsearch/datasheet/rchip/PYu-RC_Group_51_RoHS_L_11.pdf; Height: 0.6mm; Mouser Part Number: 603-RC0805FR-071KP; Mouser Price/Stock: https://www.mouser.co.uk/ProductDetail/YAGEO/RC0805FR-071KP?qs=oypCK0zG326aokxzZV%252Bpvw%3D%3D; Arrow Part Number: RC0805FR-071KP; Arrow Price/Stock: https://www.arrow.com/en/products/rc0805fr-071kp/yageo?region=nac
footprint RESC2012X60N
pins: 1, 2

## ER+1K_1206
designator R?, comment 1k
Resistor 0.25 W, 1 %; Manufacturer_Name: Vishay; Manufacturer_Part_Number: CRCW12061K00FKEAC; Datasheet Link: http://componentsearchengine.com/Datasheets/1/CRCW12061K00FKEAC.pdf; Height: 0.6mm; Mouser Part Number: 71-CRCW12061K00FKEAC; Mouser Price/Stock: https://www.mouser.co.uk/ProductDetail/Vishay-Dale/CRCW12061K00FKEAC?qs=E3Y5ESvWgWO0OgAK1JT%252BIg%3D%3D; Arrow Part Number: CRCW12061K00FKEAC; Arrow Price/Stock: https://www.arrow.com/en/products/crcw12061k00fkeac/vishay?region=nac
footprint RESC3216X60N
pins: 1, 2

## ER+1M_1206
designator R?, comment 1M
Resistor 0.25 W, 1 %; Manufacturer_Name: Vishay; Manufacturer_Part_Number: CRCW12061M00FKEA; Datasheet Link: http://componentsearchengine.com/Datasheets/1/CRCW12061M00FKEA.pdf; Height: 0.6mm; Mouser Part Number: 71-CRCW1206-1.0M-E3; Mouser Price/Stock: https://www.mouser.co.uk/ProductDetail/Vishay-Dale/CRCW12061M00FKEA?qs=MlrpPnmuaiSp2eK8RtCoQQ%3D%3D; Arrow Part Number: CRCW12061M00FKEA; Arrow Price/Stock: https://www.arrow.com/en/products/crcw12061m00fkea/vishay
footprint RESC3216X60N
pins: 1, 2

## ER+1R
designator R?, comment 1R
Resistor 1%, 0.1W; Manufacturer_Name: Vishay; Manufacturer_Part_Number: CRCW06031R00FKEA; Datasheet Link: http://www.vishay.com/docs/20035/dcrcwe3.pdf; Height: 0.5mm; Mouser Part Number: 71-CRCW06031R00FKEA; Mouser Price/Stock: https://www.mouser.co.uk/ProductDetail/Vishay-Dale/CRCW06031R00FKEA?qs=80Q0wBSdnoFsJFjT92phpw%3D%3D; Arrow Part Number: CRCW06031R00FKEA; Arrow Price/Stock: https://www.arrow.com/en/products/crcw06031r00fkea/vishay?region=nac
footprint RESC1608X50N
pins: 1, 2
text: 0.1W 1%

## ER+1R5
designator R?, comment 1R5
Resistor 1%, 0.1W; Manufacturer_Name: Vishay; Manufacturer_Part_Number: CRCW06031R50FKEA; Datasheet Link: http://www.vishay.com/docs/20035/dcrcwe3.pdf; Height: 0.5mm; Mouser Part Number: 71-CRCW0603-1.5-E3; Mouser Price/Stock: https://www.mouser.co.uk/ProductDetail/Vishay-Dale/CRCW06031R50FKEA?qs=X3IDIfI%252BJAVzCtWxVbo05w%3D%3D; Arrow Part Number: CRCW06031R50FKEA; Arrow Price/Stock: https://www.arrow.com/en/products/crcw06031r50fkea/vishay
footprint RESC1608X50N
pins: 1, 2
text: 0.1W 1%

## ER+2R2
designator R?, comment 2R2
Resistor 1%, 0.1W; Manufacturer_Name: Vishay; Manufacturer_Part_Number: CRCW06032R20FKEA; Datasheet Link: http://www.vishay.com/docs/20035/dcrcwe3.pdf; Height: 0.5mm; Mouser Part Number: 71-CRCW0603-2.2-E3; Mouser Price/Stock: https://www.mouser.co.uk/ProductDetail/Vishay-Dale/CRCW06032R20FKEA?qs=rWmqDOB7XyjYuLjFkhSPbQ%3D%3D; Arrow Part Number: CRCW06032R20FKEA; Arrow Price/Stock: https://www.arrow.com/en/products/crcw06032r20fkea/vishay
footprint RESC1608X50N
pins: 1, 2
text: 0.1W 1%

## ER+3k3_0805
designator R?, comment 3k3
SMD 3.3KOhms 1/8W 150V; Manufacturer_Name: TE Connectivity; Manufacturer_Part_Number: CRG0805F3K3; Datasheet Link: https://www.te.com/commerce/DocumentDelivery/DDEController?Action=srchrtrv&DocNm=1773204&DocType=Data%20Sheet&DocLang=English&PartCntxt=1623214-1&DocFormat=pdf; Height: 0.65mm; Mouser Part Number: 279-CRG0805F3K3; Mouser Price/Stock: https://www.mouser.co.uk/ProductDetail/TE-Connectivity-Holsworthy/CRG0805F3K3?qs=VHcS2MTj4gYLGFK3yImALA%3D%3D; Arrow Part Number: CRG0805F3K3; Arrow Price/Stock: https://www.arrow.com/en/products/crg0805f3k3/te-connectivity?region=nac
footprint RESC2012X65N
pins: 1, 2

## ER+3R3
designator R?, comment 3R3
Resistor 1%, 0.1W; Manufacturer_Name: Vishay; Manufacturer_Part_Number: CRCW06033R30FKEA; Datasheet Link: http://www.vishay.com/docs/20035/dcrcwe3.pdf; Height: 0.5mm; Mouser Part Number: 71-CRCW06033R30FKEA; Mouser Price/Stock: http://www.mouser.com/Search/ProductDetail.aspx?qs=aVQbgkeNPKB%2f6MYhEOKCtg%3d%3d
footprint RESC1608X50N
pins: 1, 2
text: 0.1W 1%

## ER+4k7
designator R?, comment 4k7
Resistor 1%, 0.1W; Manufacturer_Name: Vishay; Manufacturer_Part_Number: CRCW06034K70FKEAHP; Datasheet Link: http://www.farnell.com/datasheets/1885357.pdf; Height: 0.5mm; Mouser Part Number: 71-CRCW06034K70FKEAH; Mouser Price/Stock: https://www.mouser.co.uk/ProductDetail/Vishay-Dale/CRCW06034K70FKEAHP?qs=k2%2FDWSARqgF9tclCHvhGkQ%3D%3D; Arrow Part Number: CRCW06034K70FKEAHP; Arrow Price/Stock: https://www.arrow.com/en/products/crcw06034k70fkeahp/vishay?region=nac
footprint RESC1608X50N
pins: 1, 2
text: 0.1W 1%

## ER+4k7_0805
designator R?
Thick Film Resistors - SMD D12/CRCW0805 100 4K7 1% ET6 e3; Manufacturer_Name: Vishay; Manufacturer_Part_Number: CRCW08054K70FKEC; Datasheet Link: http://www.vishay.com/docs/20035/dcrcwe3.pdf; Height: 0.5mm; Mouser Part Number: 71-CRCW08054K70FKEC; Mouser Price/Stock: https://www.mouser.co.uk/ProductDetail/Vishay-Dale/CRCW08054K70FKEC?qs=91KZXgJlsz5QqiFhYh67ag%3D%3D
footprint RESC2012X50N
pins: 1, 2

## ER+4R7
designator R?, comment 4R7
Resistor 1%, 0.1W; Manufacturer_Name: Vishay; Manufacturer_Part_Number: CRCW06034R70FKEA; Datasheet Link: http://www.vishay.com/docs/20035/dcrcwe3.pdf; Height: 0.5mm; Mouser Part Number: 71-CRCW06034R70FKEA; Mouser Price/Stock: https://www.mouser.co.uk/ProductDetail/Vishay-Dale/CRCW06034R70FKEA?qs=LaKOwveN4rZzkxp1ZeOAZQ%3D%3D; Arrow Part Number: CRCW06034R70FKEA; Arrow Price/Stock: https://www.arrow.com/en/products/crcw06034r70fkea/vishay?region=europe
footprint RESC1608X50N
pins: 1, 2
text: 0.1W 1%

## ER+5k1
designator R?, comment 5k1
Thick Film Resistors - SMD 1/10Watt 5.1Kohms 1%; Manufacturer_Name: Vishay; Manufacturer_Part_Number: CRCW06035K10FKEBC; Datasheet Link: https://www.vishay.com/docs/28773/crcwce3.pdf; Height: 0.55mm; Mouser Part Number: 71-CRCW06035K10FKEBC; Mouser Price/Stock: https://www.mouser.co.uk/ProductDetail/Vishay-Dale/CRCW06035K10FKEBC?qs=wd5RIQLrsJiajonkePuzqw%3D%3D; Arrow Part Number: CRCW06035K10FKEBC; Arrow Price/Stock: https://www.arrow.com/en/products/crcw06035k10fkebc/vishay?region=nac
footprint RESC1608X55N
pins: 1, 2
text: 0.1W 1%

## ER+10K
designator R?, comment 10K
Resistor 1%, 0.1W; Manufacturer_Name: Vishay; Manufacturer_Part_Number: CRCW060310K0FKEA; Datasheet Link: http://www.vishay.com/docs/20035/dcrcwe3.pdf; Height: 0.5mm; Mouser Part Number: 71-CRCW0603-10K-E3; Mouser Price/Stock: https://www.mouser.co.uk/ProductDetail/Vishay-Dale/CRCW060310K0FKEA?qs=pAO1Z172M84BVnhDjtnsoQ%3D%3D; Arrow Part Number: CRCW060310K0FKEA; Arrow Price/Stock: https://www.arrow.com/en/products/crcw060310k0fkea/vishay?region=europe
footprint RESC1608X50N
pins: 1, 2
text: 0.1W 1%

## ER+10K_0805
designator R?, comment 10k
Resistor; Manufacturer_Name: TE Connectivity; Manufacturer_Part_Number: CRG0805F10K; Datasheet Link: http://www.te.com/commerce/DocumentDelivery/DDEController?Action=showdoc&DocId=Customer+Drawing%7F1623109%7FBA%7Fpdf%7FEnglish%7FENG_CD_1623109_BA.pdf%7F1623109-1; Height: 0.65mm; Mouser Part Number: 279-1623097-1; Mouser Price/Stock: https://www.mouser.co.uk/ProductDetail/TE-Connectivity/CRG0805F10K?qs=9ylKvqdyudm5ckRCC7pxbQ%3D%3D; Arrow Part Number: CRG0805F10K; Arrow Price/Stock: https://www.arrow.com/en/products/crg0805f10k/te-connectivity?region=nac
footprint RESC2013X65N
pins: 1, 2

## ER+10K_1206
designator R?, comment 10k
Resistor 0.25 W, 1 %; Manufacturer_Name: Vishay; Manufacturer_Part_Number: CRCW120610K0FKEAC; Datasheet Link: http://componentsearchengine.com/Datasheets/1/CRCW120610K0FKEAC.pdf; Height: 0.6mm; Mouser Part Number: 71-CRCW120610K0FKEAC; Mouser Price/Stock: https://www.mouser.co.uk/ProductDetail/Vishay-Dale/CRCW120610K0FKEAC?qs=E3Y5ESvWgWNPpaQJSBoFjw%3D%3D; Arrow Part Number: CRCW120610K0FKEAC; Arrow Price/Stock: https://www.arrow.com/en/products/crcw120610k0fkeac/vishay?region=nac
footprint RESC3216X60N
pins: 1, 2

## ER+10kNTC3435K
designator R?, comment 10k 3435K
NTC (Negative Temperature Coefficient) Thermistors NTC,10K,1%,0603,125C,AEC-Q200,ECO; Manufacturer_Name: TDK; Manufacturer_Part_Number: NTCGS163JF103FT7; Datasheet Link: https://product.tdk.com/system/files/dam/doc/product/sensor/ntc/chip-ntc-thermistor/catalog/tpd_automotive_ntc-thermistor_ntcgs_en.pdf; Height: 0.9mm; Mouser Part Number: 810-NTCGS163JF103FT7; Mouser Price/Stock: https://www.mouser.co.uk/ProductDetail/TDK/NTCGS163JF103FT7?qs=dbcCsuKDzFUyQBb6rE%2FcrQ%3D%3D
footprint THRMC1608X90N
pins: 1, 2

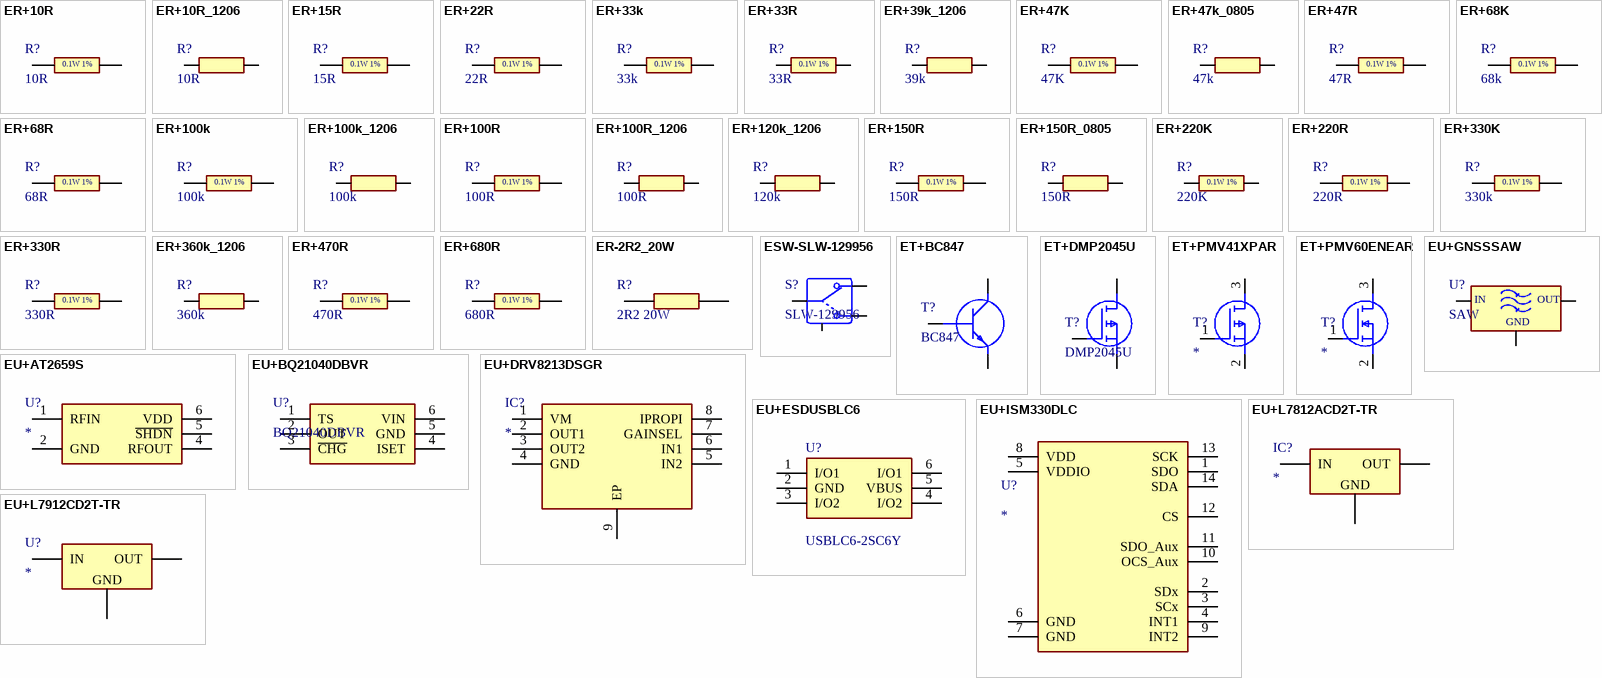
[diagram p2: symbols ER+10R to EU+L7912CD2T-TR]

## ER+10R
designator R?, comment 10R
Resistor 1%, 0.1W; Manufacturer_Name: Vishay; Manufacturer_Part_Number: CRCW060310R0FKEAHP; Datasheet Link: http://www.farnell.com/datasheets/1885357.pdf; Height: 0.5mm; Mouser Part Number: 71-CRCW060310R0FKEAH; Mouser Price/Stock: https://www.mouser.co.uk/ProductDetail/Vishay-Dale/CRCW060310R0FKEAHP?qs=k2%2FDWSARqgHKJ7AdmQKyZw%3D%3D; Arrow Part Number: CRCW060310R0FKEAHP; Arrow Price/Stock: https://www.arrow.com/en/products/crcw060310r0fkeahp/vishay?region=nac
footprint RESC1608X50N
pins: 1, 2
text: 0.1W 1%

## ER+10R_1206
designator R?, comment 10R
Resistor 0.25 W, 1 %; Manufacturer_Name: Vishay; Manufacturer_Part_Number: CRCW120610R0FKEC; Height: 0.6mm; Mouser Part Number: 71-CRCW120610R0FKEC; Mouser Price/Stock: https://www.mouser.co.uk/ProductDetail/Vishay-Dale/CRCW120610R0FKEC?qs=qjYnlFi2bGnnTXtjkGZ7IQ%3D%3D
footprint RESC3216X60N
pins: 1, 2

## ER+15R
designator R?, comment 15R
Resistor 1%, 0.1W; Manufacturer_Name: Vishay; Manufacturer_Part_Number: CRCW060315R0FKEA; Datasheet Link: http://www.vishay.com/docs/20035/dcrcwe3.pdf; Height: 0.5mm; Mouser Part Number: 71-CRCW0603-15-E3; Mouser Price/Stock: https://www.mouser.co.uk/ProductDetail/Vishay-Dale/CRCW060315R0FKEA?qs=Fz3yxlUjJZFcSTbfb6CDjg%3D%3D; Arrow Part Number: CRCW060315R0FKEA; Arrow Price/Stock: https://www.arrow.com/en/products/crcw060315r0fkea/vishay?region=nac
footprint RESC1608X50N
pins: 1, 2
text: 0.1W 1%

## ER+22R
designator R?, comment 22R
Resistor 1%, 0.1W; Manufacturer_Name: Vishay; Manufacturer_Part_Number: CRCW060322R0FKEA; Datasheet Link: http://www.vishay.com/docs/20035/dcrcwe3.pdf; Height: 0.5mm; Mouser Part Number: 71-CRCW0603-22-E3; Mouser Price/Stock: https://www.mouser.co.uk/ProductDetail/Vishay-Dale/CRCW060322R0FKEA?qs=WV2t1o5hSQVzBsSjdimT7Q%3D%3D; Arrow Part Number: CRCW060322R0FKEA; Arrow Price/Stock: https://www.arrow.com/en/products/crcw060322r0fkea/vishay
footprint RESC1608X50N
pins: 1, 2
text: 0.1W 1%

## ER+33k
designator R?, comment 33k
Thick Film Resistors - SMD General Purpose Chip Resistor 0603, 33kOhms, 1%, 1/10W; Manufacturer_Name: Yageo Group; Manufacturer_Part_Number: RC0603FR-1333KL; Datasheet Link: http://www.yageo.com/documents/recent/PYu-RC0603_51_RoHS_L_v5.pdf; Height: 0.55mm; Mouser Part Number: 603-RC0603FR-1333KL; Mouser Price/Stock: https://www.mouser.co.uk/ProductDetail/Yageo/RC0603FR-1333KL?qs=IuGqVx9wL0LwIipsoMfsXg%3D%3D
footprint RESC1608X55N
pins: 1, 2
text: 0.1W 1%

## ER+33R
designator R?, comment 33R
Resistor 1% 0.1W; Manufacturer_Name: ROYALOHM; Manufacturer_Part_Number: 0603WAF330JT5E; Datasheet Link: https://datasheet.lcsc.com/lcsc/2206010116_UNI-ROYAL-Uniroyal-Elec-0603WAF330JT5E_C23140.pdf; Height: 0.55mm; Mouser Part Number: 303-0603WAF330JT5E; Mouser Price/Stock: https://www.mouser.co.uk/ProductDetail/Royalohm/0603WAF330JT5E?qs=e8oIoAS2J1RitKiKgULsBA%3D%3D
footprint RESC1608X55N
pins: 1, 2
text: 0.1W 1%

## ER+39k_1206
designator R?, comment 39k
Resistor 0.25 W, 1 %; Manufacturer_Name: Vishay; Manufacturer_Part_Number: CRCW120639K0FKTA; Datasheet Link: http://componentsearchengine.com/Datasheets/1/CRCW120639K0FKTA.pdf; Height: 0.6mm; Mouser Part Number: 71-CRCW1206-39K; Mouser Price/Stock: https://www.mouser.co.uk/ProductDetail/Vishay-Dale/CRCW120639K0FKTA?qs=tK3UbclYJO5ODzIrRhZUeQ%3D%3D
footprint RESC3216X60N
pins: 1, 2

## ER+47K
designator R?, comment 47K
Resistor 1%, 0.1W; Manufacturer_Name: Vishay; Manufacturer_Part_Number: CRCW060347K0FKEA; Datasheet Link: http://www.vishay.com/docs/20035/dcrcwe3.pdf; Height: 0.5mm; Mouser Part Number: 71-CRCW0603-47K-E3; Mouser Price/Stock: https://www.mouser.co.uk/ProductDetail/Vishay-Dale/CRCW060347K0FKEA?qs=yJVtgANCw03gcaACf6JZKA%3D%3D; Arrow Part Number: CRCW060347K0FKEA; Arrow Price/Stock: https://www.arrow.com/en/products/crcw060347k0fkea/vishay?region=nac
footprint RESC1608X50N
pins: 1, 2
text: 0.1W 1%

## ER+47k_0805
designator R?, comment 47k
Resistor; Manufacturer_Name: KOA Speer; Manufacturer_Part_Number: RK73B2ATTD473J; Datasheet Link: https://cz.mouser.com/datasheet/2/219/RK73B-1825463.pdf; Height: 0.65mm; Mouser Part Number: 660-RK73B2ATTD473J
footprint RESC2013X65N
pins: 1, 2

## ER+47R
designator R?, comment 47R
Resistor 1%, 0.1W; Manufacturer_Name: Vishay; Manufacturer_Part_Number: CRCW060347R0FKEA; Datasheet Link: http://www.vishay.com/docs/20035/dcrcwe3.pdf; Height: 0.5mm; Mouser Part Number: 71-CRCW0603-47-E3; Mouser Price/Stock: https://www.mouser.co.uk/ProductDetail/Vishay-Dale/CRCW060347R0FKEA?qs=iDmGvCT5Yjyx0QVXsg7Ljw%3D%3D; Arrow Part Number: CRCW060347R0FKEA; Arrow Price/Stock: https://www.arrow.com/en/products/crcw060347r0fkea/vishay
footprint RESC1608X50N
pins: 1, 2
text: 0.1W 1%

## ER+68K
designator R?, comment 68k
Resistor 1%, 0.1W; Manufacturer_Name: Vishay; Manufacturer_Part_Number: CRCW060368K0FKEA; Datasheet Link: http://www.vishay.com/docs/20035/dcrcwe3.pdf; Height: 0.5mm; Mouser Part Number: 71-CRCW0603-68K-E3; Mouser Price/Stock: https://www.mouser.co.uk/ProductDetail/Vishay-Dale/CRCW060368K0FKEA?qs=ZOFh%252BZEbFTCrHPm9oEJeWQ%3D%3D; Arrow Part Number: CRCW060368K0FKEA; Arrow Price/Stock: https://www.arrow.com/en/products/crcw060368k0fkea/vishay?utm_currency=USD&region=nac
footprint RESC1608X50N
pins: 1, 2
text: 0.1W 1%

## ER+68R
designator R?, comment 68R
Resistor 1%, 0.1W; Manufacturer_Name: Vishay; Manufacturer_Part_Number: CRCW060368R0FKEA; Datasheet Link: http://www.vishay.com/docs/20035/dcrcwe3.pdf; Height: 0.5mm; Mouser Part Number: 71-CRCW0603-68-E3; Mouser Price/Stock: https://www.mouser.co.uk/ProductDetail/Vishay-Dale/CRCW060368R0FKEA?qs=2rshWTB%2FmZzzcP6Rm%252Be1ig%3D%3D; Arrow Part Number: CRCW060368R0FKEA; Arrow Price/Stock: https://www.arrow.com/en/products/crcw060368r0fkea/vishay
footprint RESC1608X50N
pins: 1, 2
text: 0.1W 1%

## ER+100k
designator R?, comment 100k
Thick Film Resistors 0603 - SMD 1/10Watt 100Kohms 1% Commercial Use; Manufacturer_Name: Yageo Group; Manufacturer_Part_Number: AC0603FR-10100KL; Datasheet Link: https://www.yageo.com/upload/media/product/productsearch/datasheet/rchip/PYu-AC_51_RoHS_L_10.pdf; Height: 0.55mm; Mouser Part Number: 603-AC0603FR-10100KL; Mouser Price/Stock: https://www.mouser.com/Search/Refine.aspx?Keyword=603-AC0603FR-10100KL
footprint RESC1608X55N
pins: 1, 2
text: 0.1W 1%

## ER+100k_1206
designator R?, comment 100k
Resistor 0.25 W, 1 %; Manufacturer_Name: Vishay; Manufacturer_Part_Number: CRCW1206100KFKEAC; Datasheet Link: http://componentsearchengine.com/Datasheets/1/CRCW1206100KFKEAC.pdf; Height: 0.6mm; Mouser Part Number: 71-CRCW1206100KFKEAC; Mouser Price/Stock: https://www.mouser.co.uk/ProductDetail/Vishay-Dale/CRCW1206100KFKEAC?qs=E3Y5ESvWgWOj0R8WuuRo8w%3D%3D; Arrow Part Number: CRCW1206100KFKEAC; Arrow Price/Stock: https://www.arrow.com/en/products/crcw1206100kfkeac/vishay?region=nac
footprint RESC3216X60N
pins: 1, 2

## ER+100R
designator R?, comment 100R
Resistor 1%, 0.1W; Manufacturer_Name: Vishay; Manufacturer_Part_Number: CRCW0603100RFKEAHP; Datasheet Link: http://www.farnell.com/datasheets/1885357.pdf; Height: 0.5mm; Mouser Part Number: 71-CRCW0603100RFKEAH; Mouser Price/Stock: https://www.mouser.co.uk/ProductDetail/Vishay-Dale/CRCW0603100RFKEAHP?qs=k2%2FDWSARqgFge2%2F4aMqsYg%3D%3D; Arrow Part Number: CRCW0603100RFKEAHP; Arrow Price/Stock: https://www.arrow.com/en/products/crcw0603100rfkeahp/vishay?region=europe
footprint RESC1608X50N
pins: 1, 2
text: 0.1W 1%

## ER+100R_1206
designator R?, comment 100R
Resistor 0.25 W, 1 %; Manufacturer_Name: Vishay; Manufacturer_Part_Number: CRCW1206100RFKEC; Height: 0.6mm; Mouser Part Number: 71-CRCW1206100RFKEC; Mouser Price/Stock: https://www.mouser.co.uk/ProductDetail/Vishay-Dale/CRCW1206100RFKEC?qs=kL%252BAy1pSNWINBclIscFCNQ%3D%3D; Arrow Part Number: CRCW1206100RFKEC; Arrow Price/Stock: https://www.arrow.com/en/products/crcw1206100rfkec/vishay
footprint RESC3216X60N
pins: 1, 2

## ER+120k_1206
designator R?, comment 120k
Resistor 0.25 W, 1 %; Manufacturer_Name: Vishay; Manufacturer_Part_Number: CRCW1206120KFKEA; Datasheet Link: http://www.vishay.com/docs/20035/dcrcwe3.pdf; Height: 0.6mm; Mouser Part Number: 71-CRCW1206-120K-E3; Mouser Price/Stock: https://www.mouser.co.uk/ProductDetail/Vishay-Dale/CRCW1206120KFKEA/?qs=AcN%2F%2F5h%252BSuZYGDFxDgQ1cQ%3D%3D; Arrow Part Number: CRCW1206120KFKEA; Arrow Price/Stock: https://www.arrow.com/en/products/crcw1206120kfkea/vishay
footprint RESC3216X60N
pins: 1, 2